# Altium schematic symbol library MOSFET-N BSS138.Schlib: 1 symbol
Pins are listed as number, name and electrical type; pins without a type are passive.

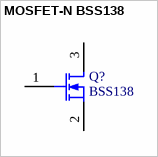
[diagram p0: symbol MOSFET-N BSS138]

## MOSFET-N BSS138
designator Q?, comment BSS138
N-Channel MOSFET
pins: 1 G, 2 S, 3 D